# Altium schematic symbol library IND 0201.SchLib: 1 symbol
Pins are listed as number, name and electrical type; pins without a type are passive.

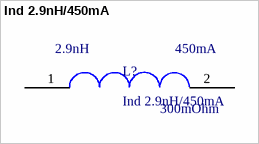
[diagram p0: symbol Ind 2.9nH/450mA]

## Ind 2.9nH/450mA
designator L?  Rated Current: 450mA  Impedance: 300mOhm  Inductance: 2.9nH
2.9nH Unshielded Multilayer Inductor 450mA 300mOhm Max 0201 (0603 Metric); Manufacturer: TDK Corporation; Manufacturer PN: MHQ0603P2N9BT000; Digi-Key PN: 445-16840-1-ND
footprint INDC0604X04N (Chip Inductor, 2-Leads, Body 0,65x0,35mm, IPC Medium Density)
pins: 1, 2